# Altium schematic symbol library ETD29_16_10_N97_3.Schlib: 1 symbol
Pins are listed as number, name and electrical type; pins without a type are passive.

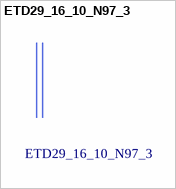
[diagram p0: symbol ETD29_16_10_N97_3]

## ETD29_16_10_N97_3
designator CORE?